# EAGLE library part 613032216921 (library Eagle_BOARD-TO-BOARD_CONNECTORS (rev18b))
WR-PHD 2.54mm Dual S. Header Bottom Entry Large, 32 Pins=>Code : Con_BTB_SHD_2.54_2_613032216921 <http://katalog.we-online.de/media/images/eican/Con_BTB_SHD_2.54_2_6130xx216921_pf2.jpg> Details see: http://katalog.we-online.de/en/em/613_0xx_216_921 Created 2014-05-30, Karrer Zheng 2014 (C) Würth Elektronik
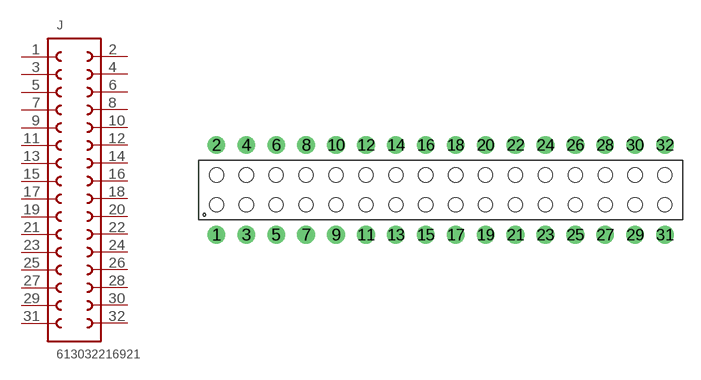
[diagram p174: symbol with the pads of 613032216921; footprint 613032216921]

Designator prefix J

## 613032216921  [613032216921]
1  1  pas
2  32  pas
3  2  pas
4  31  pas
5  3  pas
6  30  pas
7  4  pas
8  29  pas
9  5  pas
10  28  pas
11  6  pas
12  27  pas
13  7  pas
14  26  pas
15  8  pas
16  25  pas
17  9  pas
18  24  pas
19  10  pas
20  23  pas
21  11  pas
22  22  pas
23  12  pas
24  21  pas
25  13  pas
26  20  pas
27  14  pas
28  19  pas
29  15  pas
30  18  pas
31  16  pas
32  17  pas

## Footprint 613032216921 (pad centres in mm)
WR-PHD 2.54mm Dual S. Header Bottom Entry Large, 32 Pins
drill 1: 1 -19.05,-3.81; 2 -19.05,3.81; 3 -16.51,-3.81; 4 -16.51,3.81; 5 -13.97,-3.81; 6 -13.97,3.81; 7 -11.43,-3.81; 8 -11.43,3.81; 9 -8.89,-3.81; 10 -8.89,3.81; 11 -6.35,-3.81; 12 -6.35,3.81; 13 -3.81,-3.81; 14 -3.81,3.81; 15 -1.27,-3.81; 16 -1.27,3.81; 17 1.27,-3.81; 18 1.27,3.81; 19 3.81,-3.81; 20 3.81,3.81; 21 6.35,-3.81; 22 6.35,3.81; 23 8.89,-3.81; 24 8.89,3.81; 25 11.43,-3.81; 26 11.43,3.81; 27 13.97,-3.81; 28 13.97,3.81; 29 16.51,-3.81; 30 16.51,3.81; 31 19.05,-3.81; 32 19.05,3.81
hole 1.2 at -19.05,1.27
hole 1.2 at -16.51,1.27
hole 1.2 at -16.51,-1.27
hole 1.2 at -19.05,-1.27
hole 1.2 at -13.97,1.27
hole 1.2 at -13.97,-1.27
hole 1.2 at -11.43,-1.27
hole 1.2 at -11.43,1.27
hole 1.2 at -8.89,1.27
hole 1.2 at -8.89,-1.27
hole 1.2 at -6.35,-1.27
hole 1.2 at -6.35,1.27
hole 1.2 at -3.81,1.27
hole 1.2 at -1.27,1.27
hole 1.2 at -3.81,-1.27
hole 1.2 at -1.27,-1.27
hole 1.2 at 1.27,1.27
hole 1.2 at 1.27,-1.27
hole 1.2 at 3.81,1.27
hole 1.2 at 3.81,-1.27
hole 1.2 at 6.35,1.27
hole 1.2 at 6.35,-1.27
hole 1.2 at 8.89,1.27
hole 1.2 at 8.89,-1.27
hole 1.2 at 11.43,1.27
hole 1.2 at 11.43,-1.27
hole 1.2 at 13.97,1.27
hole 1.2 at 16.51,1.27
hole 1.2 at 13.97,-1.27
hole 1.2 at 16.51,-1.27
hole 1.2 at 19.05,1.27
hole 1.2 at 19.05,-1.27